# Altium integrated library ConnRibbon.IntLib: 1 symbol
Pins are listed as number, name and electrical type; pins without a type are passive.

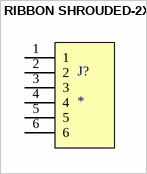
[diagram p0: symbol RIBBON SHROUDED-2X3]

## RIBBON SHROUDED-2X3
designator J?
footprint 61200621621 (RIBBON SHROUDED 2X3-2.54)
pins: 1, 2, 3, 4, 5, 6